# Altium footprint library Voltage Regulators - Linear,Low Drop Out.PcbLib: 1 footprints
Each footprint in its own frame and in the unit in brackets; x right, y up, seen from the top. Pads: shape width x height; smd on the part's side, far side on the other; paste and mask are expansions set on the pad; w line width, h text height; cw(c..) or ccw(c..) is an arc to the next point about the centre after c.
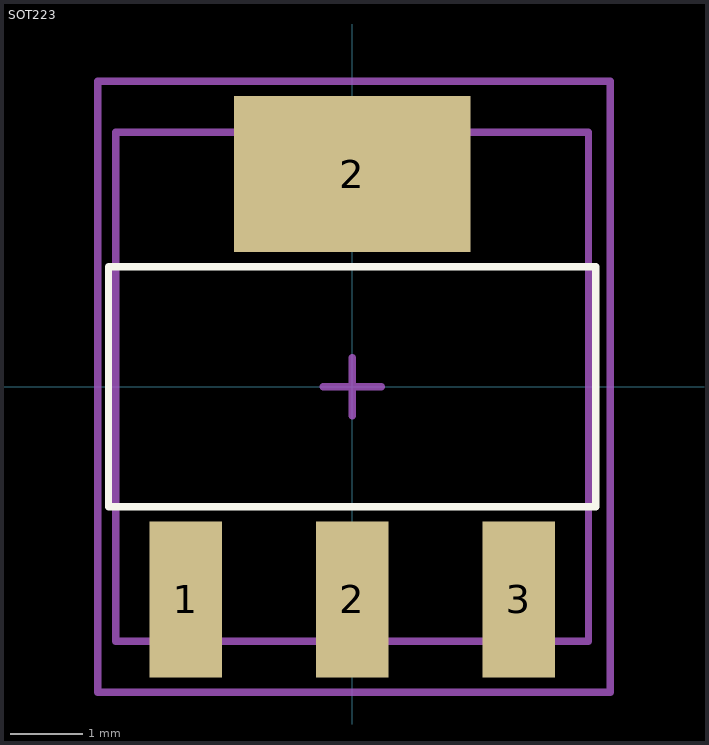
[diagram p0: the footprint, top view; thin cyan lines are the x and y axes]

## SOT223 [mm] "SOT223 / 3"
pads (4):
  rect 1x2.15 smd: 1(-2.29,-2.925) 2(0,-2.925) 3(2.29,-2.925)
  rect 3.25x2.15 smd: 2(0,2.925)
Top Overlay:
  lines w0.1: -3.35,-1.65 -3.35,1.65 3.35,1.65 3.35,-1.65 -3.35,-1.65
Top 3D Body:
  lines w0.1: -3.25,-3.5 3.25,-3.5 3.25,3.5 -3.25,3.5 -3.25,-3.5
Top Component Center:
  lines w0.1: -0.4,0 0.4,0 ; 0,-0.4 0,0.4 ; -3.5,-4.2 3.55,-4.2 3.55,4.2 -3.5,4.2 -3.5,-4.2
Top Designator:
  lines w0.1: -3.5,-4.2 -3.5,4.2 3.55,4.2 3.55,-4.2 -3.5,-4.2
  text ".Designator" at 0.3,0.117 h0.5
3D body "AMS1117.STEP": height 1.8, standoff 0, extent -3.251,-3.499 3.251,3.499